# Altium footprint library DDC112_Components.PcbLib: 24 footprints (part 1 of 2)
Each footprint in its own frame and in the unit in brackets; x right, y up, seen from the top. Pads: shape width x height; smd on the part's side, far side on the other; paste and mask are expansions set on the pad; w line width, h text height; cw(c..) or ccw(c..) is an arc to the next point about the centre after c.
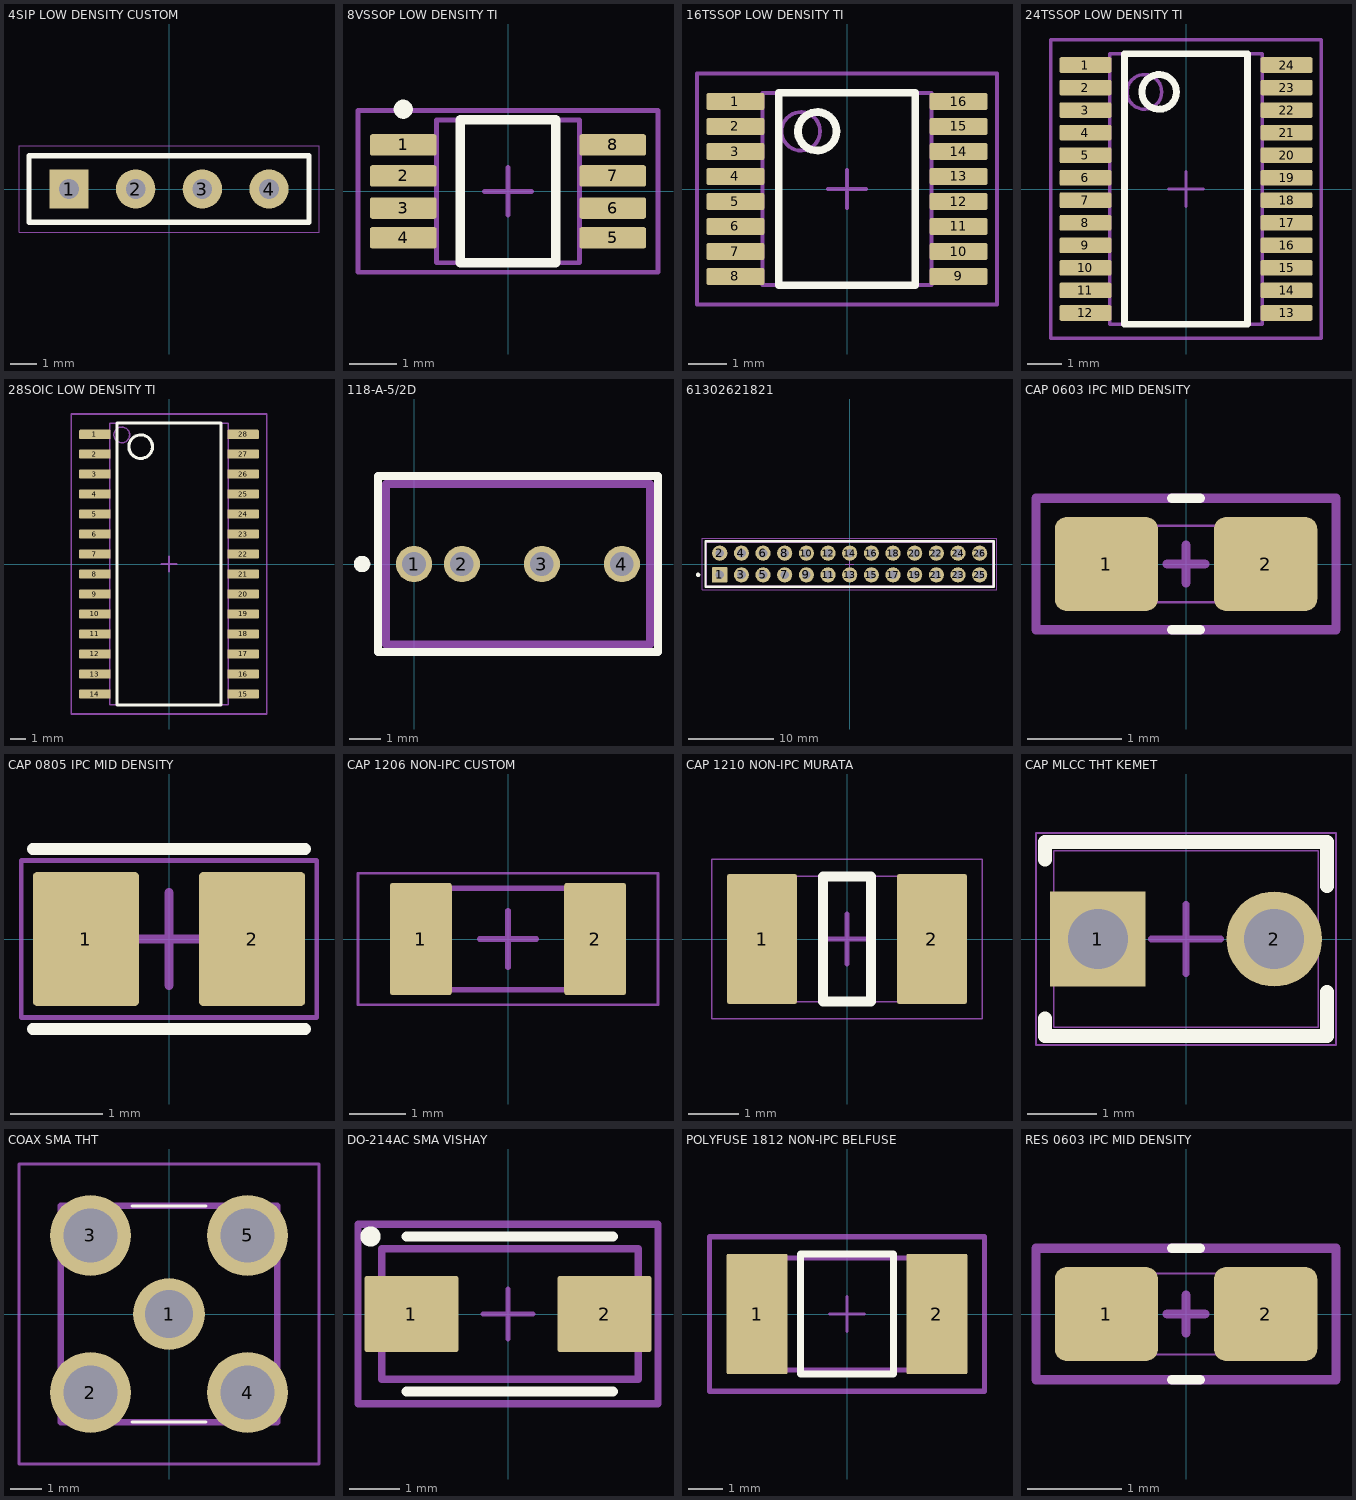
[diagram p0: the footprints below, top view; thin cyan lines are the x and y axes]

## 4SIP LOW DENSITY CUSTOM [mm] "For VTF330SUF resistor network."
pads (4):
  rrect6% 1.5x1.5 hole 0.75 mask+0.035: 1(-3.81,0)
  round 1.5 hole 0.75 mask+0.035: 2(-1.27,0) 3(1.27,0) 4(3.81,0)
Top Overlay:
  lines w0.2: -5.334,-1.27 5.334,-1.27 5.334,1.27 -5.334,1.27 -5.334,-1.27
Top Courtyard:
  lines w0.025: -5.715,-1.651 5.715,-1.651 5.715,1.651 -5.715,1.651 -5.715,-1.651
Bottom Courtyard:
  lines w0.025: -5.715,-1.651 5.715,-1.651 5.715,1.651 -5.715,1.651 -5.715,-1.651
Top 3D Body:
  lines w0.025: -5.334,-1.27 -5.334,1.27 5.334,1.27 5.334,-1.27 -5.334,-1.27
3D body "4604h.stp": height 8.75, standoff -3.43, extent -5.03,-1.241 5.08,1.241

## 8VSSOP LOW DENSITY TI [mm]
pads (8):
  rrect22% 1.4x0.45 smd mask+0.025: 1(-2.2,0.975) 2(-2.2,0.325) 3(-2.2,-0.35) 4(-2.2,-0.975) 5(2.2,-0.975) 6(2.2,-0.35) 7(2.2,0.325) 8(2.2,0.975)
Top Overlay:
  circle w0.25: c-2.2,1.725 r0.075
  lines w0.2: -1,-1.5 -1,1.5 1,1.5 1,-1.5 -1,-1.5
Top Courtyard:
  lines w0.1: -3.15,-1.7 3.15,-1.7 3.15,1.7 -3.15,1.7 -3.15,-1.7
Top 3D Body:
  lines w0.1: -1.5,-1.5 1.5,-1.5 1.5,1.5 -1.5,1.5 -1.5,-1.5
Top Component Center:
  lines w0.1: -0.5,0 0.5,0 ; 0,-0.5 0,0.5
3D body "DGK0008A.stp": height 1.1, standoff 0, extent -2.451,-1.499 2.451,1.499

## 16TSSOP LOW DENSITY TI [mm] "Reference document: PW0016A"
pads (16):
  rrect22% 1.5x0.45 smd mask+0.025: 1(-2.9,2.275) 2(-2.9,1.625) 3(-2.9,0.975) 4(-2.9,0.325) 5(-2.9,-0.325) 6(-2.9,-0.975) 7(-2.9,-1.625) 8(-2.9,-2.275) 9(2.9,-2.275) 10(2.9,-1.625) 11(2.9,-0.975) 12(2.9,-0.325) 13(2.9,0.325) 14(2.9,0.975) 15(2.9,1.625) 16(2.9,2.275)
Top Overlay:
  circle w0.2: c-0.775,1.5 r0.5
  lines w0.2: -1.775,-2.5 1.775,-2.5 1.775,2.5 -1.775,2.5 -1.775,-2.5
Top Courtyard:
  lines w0.1: -3.9,-3 -3.9,3 3.9,3 3.9,-3 -3.9,-3
Top 3D Body:
  circle w0.1: c-1.2,1.5 r0.5
  lines w0.1: -2.2,-2.5 2.2,-2.5 2.2,2.5 -2.2,2.5 -2.2,-2.5
Top Component Center:
  lines w0.1: -0.5,0 0.5,0 ; 0,-0.5 0,0.5
3D body "TXB0106PWR.STEP": height 1.2, standoff 0, extent -3.2,-2.5 3.2,2.5

## 24TSSOP LOW DENSITY TI [mm] "Reference document: PW0024A"
pads (24):
  rrect22% 1.5x0.45 smd mask+0.025: 1(-2.9,3.575) 2(-2.9,2.925) 3(-2.9,2.275) 4(-2.9,1.625) 5(-2.9,0.975) 6(-2.9,0.325) 7(-2.9,-0.325) 8(-2.9,-0.975) 9(-2.9,-1.625) 10(-2.9,-2.275) 11(-2.9,-2.925) 12(-2.9,-3.575) 13(2.9,-3.575) 14(2.9,-2.925) 15(2.9,-2.275) 16(2.9,-1.625) 17(2.9,-0.975) 18(2.9,-0.325) 19(2.9,0.325) 20(2.9,0.975) 21(2.9,1.625) 22(2.9,2.275) 23(2.9,2.925) 24(2.9,3.575)
Top Overlay:
  circle w0.2: c-0.775,2.8 r0.5
  lines w0.2: -1.775,-3.9 -1.775,3.9 1.775,3.9 1.775,-3.9 -1.775,-3.9
Top Courtyard:
  lines w0.1: -3.9,-4.3 3.9,-4.3 3.9,4.3 -3.9,4.3 -3.9,-4.3
Top 3D Body:
  circle w0.1: c-1.2,2.8 r0.5
  lines w0.1: -2.2,-3.9 -2.2,3.9 2.2,3.9 2.2,-3.9 -2.2,-3.9
Top Component Center:
  lines w0.1: -0.5,0 0.5,0 ; 0,-0.5 0,0.5
3D body "PW0024A.stp": height 1.13, standoff 0, extent -3.2,-3.9 3.2,3.9

## 28SOIC LOW DENSITY TI [mm] "Reference document: R-PDSO-G28"
pads (28):
  rrect16% 2x0.6 smd mask+0.035: 1(-4.7,8.225) 2(-4.7,6.985) 3(-4.7,5.715) 4(-4.7,4.445) 5(-4.7,3.175) 6(-4.7,1.905) 7(-4.7,0.635) 8(-4.7,-0.635) 9(-4.7,-1.905) 10(-4.7,-3.175) 11(-4.7,-4.445) 12(-4.7,-5.715) 13(-4.7,-6.985) 14(-4.7,-8.255) 15(4.7,-8.255) 16(4.7,-6.985) 17(4.7,-5.715) 18(4.7,-4.445) 19(4.7,-3.175) 20(4.7,-1.905) 21(4.7,-0.635) 22(4.7,0.635) 23(4.7,1.905) 24(4.7,3.175) 25(4.7,4.445) 26(4.7,5.715) 27(4.7,6.985) 28(4.7,8.225)
Top Overlay:
  circle w0.2: c-1.8,7.45 r0.75
  lines w0.2: -3.3,-8.95 3.3,-8.95 3.3,8.95 -3.3,8.95 -3.3,-8.95
Top Courtyard:
  lines w0.1: -6.2,-9.525 6.2,-9.525 6.2,9.525 -6.2,9.525 -6.2,-9.525
Top 3D Body:
  circle w0.1: c-3,8.2 r0.5
  lines w0.1: -3.75,-8.95 -3.75,8.95 3.75,8.95 3.75,-8.95 -3.75,-8.95
Top Component Center:
  lines w0.1: -0.5,0 0.5,0 ; 0,-0.5 0,0.5
3D body "DDC112U.step": height 2.65, standoff 0, extent -5.15,-8.95 5.15,8.95

## 118-A-5/2D [mm]
pads (4):
  round 1.15 hole 0.75 mask+0.05: 1(0,0) 2(1.52,0) 3(4.06,0) 4(6.6,0)
Top Overlay:
  circle w0.27: c-1.651,0 r0.127
  lines w0.254: -1.143,-2.794 -1.143,2.794 7.747,2.794 7.747,-2.794 -1.143,-2.794
Mechanical 1:
  lines w0.25: -0.889,-2.56 7.491,-2.56 ; -0.889,2.54 7.491,2.54
  lines w0.254: -0.889,-2.56 -0.889,2.54 ; 7.491,-2.56 7.491,2.54
3D body "118-1-A.STEP": height 15.24, standoff -3.17, extent -0.763,-2.4 7.367,2.4

## 61302621821 [mil] "Wurth Elektronik 26-Position Dual Socket Header 0.1in Pitch THT"
pads (26):
  rrect5% 70x70 hole 40.16 mask+4.02: 1(-600,-50)
  round 70 hole 40.16 mask+4.02: 2(-600,50) 3(-500,-50) 4(-500,50) 5(-400,-50) 6(-400,50) 7(-300,-50) 8(-300,50) 9(-200,-50) 10(-200,50) 11(-100,-50) 12(-100,50) 13(0,-50) 14(0,50) 15(100,-50) 16(100,50) 17(200,-50) 18(200,50) 19(300,-50) 20(300,50) 21(400,-50) 22(400,50) 23(500,-50) 24(500,50) 25(600,-50) 26(600,50)
Top Overlay:
  circle w10.24: c-700,-50 r5
  lines w10: -665,-105 665,-105 665,105 -665,105 -665,-105
Top Courtyard:
  lines w3.94: -680,-120 680,-120 680,120 -680,120 -680,-120
Top 3D Body:
  lines w3.94: -660,-100 660,-100 660,100 -660,100 -660,-100
Top Component Center:
  lines w3.94: -19.68,0 19.68,0 ; 0,-19.68 0,19.68
3D body "61302621821.stp": height 334.65, standoff -122.05, extent -659.84,-100 659.84,100

## CAP 0603 IPC MID DENSITY [mm]
pads (2):
  rrect25% 1.1x1 smd mask+0.035: 1(-0.85,0) 2(0.85,0)
Top Overlay:
  lines w0.1: -0.151,-0.7 0.151,-0.7 ; -0.151,0.7 0.151,0.7
Top Courtyard:
  lines w0.1: -1.6,-0.7 1.6,-0.7 1.6,0.7 -1.6,0.7 -1.6,-0.7
Top 3D Body:
  lines w0.025: -0.813,-0.406 0.813,-0.406 0.813,0.406 -0.813,0.406 -0.813,-0.406
Top Component Center:
  lines w0.1: -0.2,0 0.2,0 ; 0,-0.2 0,0.2
3D body "CAP0603.stp": height 0.3, standoff 0, extent -0.8,-0.4 0.8,0.4

## CAP 0805 IPC MID DENSITY [mm]
pads (2):
  rrect8% 1.15x1.45 smd paste+0 mask+0.035: 1(-0.9,0) 2(0.9,0)
Top Overlay:
  lines w0.127: -1.475,-0.975 1.475,-0.975 ; -1.475,0.975 1.475,0.975
Top Courtyard:
  lines w0.05: -1.6,-0.85 -1.6,0.85 1.6,0.85 1.6,-0.85 -1.6,-0.85
Top Component Center:
  lines w0.1: -0.5,0 0.5,0 ; 0,-0.5 0,0.5
3D body "GRM21BR61E106KA73L.STEP": height 1.22, standoff -0.03, extent -1,-0.7 1,0.7

## CAP 1206 NON-IPC CUSTOM [mm] "Slightly oversized pads and no silkscreen, made for a guarded region with no solder mask."
pads (2):
  rrect9% 1.1x2 smd mask+0.035: 1(-1.55,0) 2(1.55,0)
Top Courtyard:
  lines w0.05: -2.667,-1.168 2.667,-1.168 2.667,1.168 -2.667,1.168 -2.667,-1.168
Top 3D Body:
  lines w0.1: -1.7,-0.9 -1.7,0.9 1.7,0.9 1.7,-0.9 -1.7,-0.9
Top Component Center:
  lines w0.1: -0.5,0 0.5,0 ; 0,-0.5 0,0.5
3D body "C1206-IPC.step": height 1.8, standoff 0, extent -1.7,-0.9 1.7,0.9

## CAP 1210 NON-IPC MURATA [mm]
pads (2):
  rrect7% 1.4x2.6 smd mask+0.035: 1(-1.7,0) 2(1.7,0)
Top Overlay:
  lines w0.2: -0.475,-1.25 0.475,-1.25 0.475,1.25 -0.475,1.25 -0.475,-1.25
Top Courtyard:
  lines w0.025: -2.7,-1.6 2.7,-1.6 2.7,1.6 -2.7,1.6 -2.7,-1.6
Top 3D Body:
  lines w0.025: -1.6,-1.25 -1.6,1.25 1.6,1.25 1.6,-1.25 -1.6,-1.25
Top Component Center:
  lines w0.1: -0.5,0 0.5,0 ; 0,-0.5 0,0.5
3D body "GRM32ER71E226ME15K.STEP": height 2.7, standoff 0, extent -1.6,-1.25 1.6,1.25

## CAP MLCC THT KEMET [mil] "Specifically for the C315C271F1G5TA."
pads (2):
  rect 54x54 hole 34 paste-99999 mask+1.38: 1(-50,0)
  round 54 hole 34 paste-99999 mask+1.38: 2(50,0)
Top Overlay:
  lines w7.87: -80,-45 -80,-55 80,-55 80,-30 ; -80,45 -80,55 80,55 80,30
Top Courtyard:
  lines w0.98: -85,-60 85,-60 85,60 -85,60 -85,-60
Bottom Courtyard:
  lines w0.98: -85,-60 85,-60 85,60 -85,60 -85,-60
Top 3D Body:
  lines w0.98: -75,-50 -75,50 75,50 75,-50 -75,-50
Top Component Center:
  lines w3.94: -19.68,0 19.68,0 ; 0,-19.68 0,19.68
3D body "C315C271F1G5TA.step": height 183.46, standoff -275.59, extent -75,-50.2 75,50

## COAX SMA THT [mm] "50Ohm, 18GHz max, female jack, Wurth Elektronik 60312002114503"
pads (5):
  round 2.325 hole 1.55: 1(0,0)
  round 2.625 hole 1.75: 2(-2.54,-2.54) 3(-2.54,2.54) 4(2.54,-2.54) 5(2.54,2.54)
Top Overlay:
  lines w0.1: -1.2,-3.5 1.2,-3.5 ; -1.2,3.5 1.2,3.5
Top Courtyard:
  lines w0.1: -4.853,-4.853 4.853,-4.853 4.853,4.853 -4.853,4.853 -4.853,-4.853
Bottom Courtyard:
  lines w0.1: -4.853,-4.853 4.853,-4.853 4.853,4.853 -4.853,4.853 -4.853,-4.853
Top 3D Body:
  lines w0.2: -3.5,-3.5 -3.5,3.5 3.5,3.5 3.5,-3.5 -3.5,-3.5
Top Component Center:
  lines w0.1: -0.5,0 0.5,0 ; 0,-0.5 0,0.5
3D body "60312002114503.stp": height 10.19, standoff -3.31, extent -3.5,-3.5 3.5,3.5

## DO-214AC SMA VISHAY [mm]
pads (2):
  rrect6% 1.88x1.52 smd mask+0.035: 1(-1.93,0) 2(1.93,0)
Top Overlay:
  circle w0.254: c-2.75,1.55 r0.075
  lines w0.2: -2.025,-1.55 2.1,-1.55 ; -2.025,1.55 2.1,1.55
Top Courtyard:
  lines w0.15: -3,-1.8 -3,1.8 3,1.8 3,-1.8 -3,-1.8
Top 3D Body:
  lines w0.15: -2.525,-1.3 -2.525,1.3 2.6,1.3 2.6,-1.3 -2.525,-1.3
Top Component Center:
  lines w0.1: -0.5,0 0.5,0 ; 0,-0.5 0,0.5
3D body "SMAJ12A-E3_61.STEP": height 2.29, standoff 0, extent -2.553,-1.333 2.553,1.333

## POLYFUSE 1812 NON-IPC BELFUSE [mm]
pads (2):
  rrect5% 1.78x3.5 smd mask+0.035: 1(-2.615,0) 2(2.615,0)
Top Overlay:
  lines w0.2: -1.35,-1.75 -1.35,1.75 1.35,1.75 1.35,-1.75 -1.35,-1.75
Top Courtyard:
  lines w0.15: -4,-2.25 4,-2.25 4,2.25 -4,2.25 -4,-2.25
Top 3D Body:
  lines w0.15: -2.275,-1.625 2.275,-1.625 2.275,1.625 -2.275,1.625 -2.275,-1.625
Top Component Center:
  lines w0.1: -0.5,0 0.5,0 ; 0,-0.5 0,0.5
3D body "0ZCG0030FF2C.step": height 0.7, standoff 0, extent -2.275,-1.62 2.275,1.62

## RES 0603 IPC MID DENSITY [mm]
pads (2):
  rrect25% 1.1x1 smd mask+0.025: 1(-0.85,0) 2(0.85,0)
Top Overlay:
  lines w0.1: -0.151,-0.7 0.151,-0.7 ; -0.151,0.7 0.151,0.7
Top Courtyard:
  lines w0.1: -1.6,-0.7 -1.6,0.7 1.6,0.7 1.6,-0.7 -1.6,-0.7
Top 3D Body:
  lines w0.025: -0.787,-0.432 -0.787,0.432 0.787,0.432 0.787,-0.432 -0.787,-0.432
Top Component Center:
  lines w0.1: -0.2,0 0.2,0 ; 0,-0.2 0,0.2
3D body "RES0603.STEP": height 0.44, standoff -0.02, extent -0.775,-0.43 0.775,0.43